# EAGLE library part FATSQUARE_GROUP (library coils)
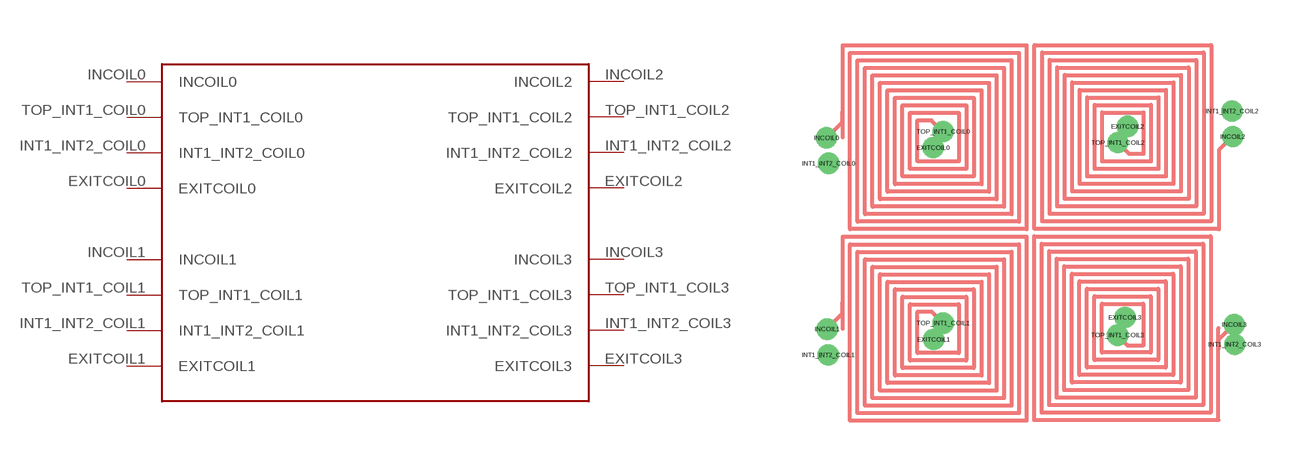
[diagram p1: symbol with the pads of FAT_SQUARE; footprint FAT_SQUARE]

Designator prefix -

## FATSQUARE_GROUP  [FAT_SQUARE]
EXITCOIL0  EXITCOIL0
EXITCOIL1  EXITCOIL1
EXITCOIL2  EXITCOIL2
EXITCOIL3  EXITCOIL3
INCOIL0  INCOIL0
INCOIL1  INCOIL1
INCOIL2  INCOIL2
INCOIL3  INCOIL3
INT1_INT2_COIL0  INT1_INT2_COIL0
INT1_INT2_COIL1  INT1_INT2_COIL1
INT1_INT2_COIL2  INT1_INT2_COIL2
INT1_INT2_COIL3  INT1_INT2_COIL3
TOP_INT1_COIL0  TOP_INT1_COIL0
TOP_INT1_COIL1  TOP_INT1_COIL1
TOP_INT1_COIL2  TOP_INT1_COIL2
TOP_INT1_COIL3  TOP_INT1_COIL3

## Footprint FAT_SQUARE (pad centres in mm)
drill 0.2 pad 0.3: EXITCOIL0 -3.239,2.822; EXITCOIL1 -3.219,-3.568; EXITCOIL2 3.239,3.528; EXITCOIL3 3.149,-2.832; INCOIL0 -6.79,3.15; INCOIL1 -6.76,-3.22; INCOIL2 6.74,3.19; INCOIL3 6.79,-3.07; INT1_INT2_COIL0 -6.716,2.299; INT1_INT2_COIL1 -6.726,-4.081; INT1_INT2_COIL2 6.716,4.041; INT1_INT2_COIL3 6.806,-3.729; TOP_INT1_COIL0 -2.905,3.36; TOP_INT1_COIL1 -2.905,-3.02; TOP_INT1_COIL2 2.915,2.99; TOP_INT1_COIL3 2.905,-3.42